# Altium integrated library Altium_WL-SMDC (rev20a).IntLib: 7 symbols
Pins are listed as number, name and electrical type; pins without a type are passive.

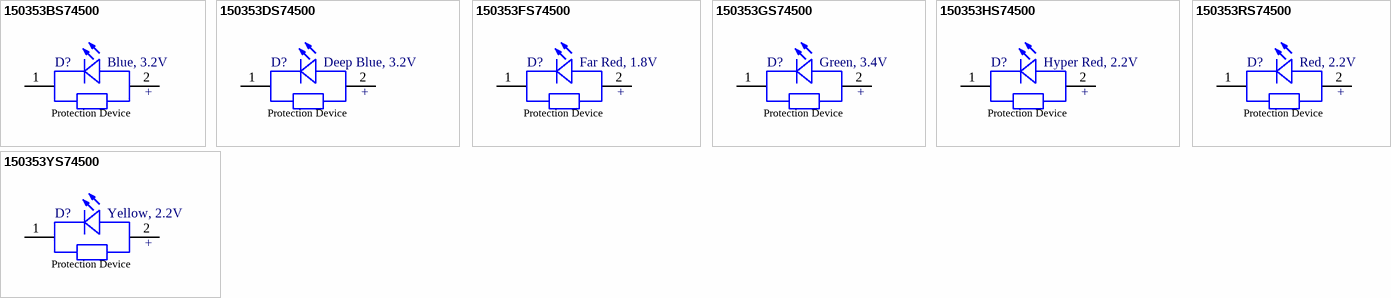
[diagram p0: symbols 150353BS74500 to 150353YS74500]

## 150353BS74500
designator D?, comment Blue, 3.2V
WL-SMDC SMT Mono-color Ceramic LED Waterclear, size 3535, 3.2V, Blue; Manufacturer Part Number: 150353BS74500; Manufacturer: Wurth Elektronik; Peak Wavelength: 455nm; Viewing Angle: 125deg; Chip Technology: InGaN; ComponentLink1Description: Manufacturer; ComponentLink1URL: http://www.we-online.de; ComponentLink2Description: Datasheet; ComponentLink2URL: https://katalog.we-online.de/led/datasheet/150353BS74500.pdf; Operating Temperature: -40 to +125degC; Emitting Color: Blue; Forward Voltage: 3.2V; Packaging: Tape and Reel; Mounting Technology: SMT; Published Date: October 2019; Size: 3535
footprint WL-SMDC_3535
pins: 1 K, 2 A
text: +; Protection Device

## 150353DS74500
designator D?, comment Deep Blue, 3.2V
WL-SMDC Horticulture SMT Monocolor Ceramic LED Waterclear, size 3535, 3.2V, Deep Blue; Manufacturer Part Number: 150353DS74500; Manufacturer: Wurth Elektronik; Peak Wavelength: 450nm; Viewing Angle: 125deg; Chip Technology: InGaN; ComponentLink1Description: Manufacturer; ComponentLink1URL: http://www.we-online.de; ComponentLink2Description: Datasheet; ComponentLink2URL: https://katalog.we-online.de/led/datasheet/150353DS74500.pdf; Operating Temperature: -40 to +100degC; Emitting Color: Deep Blue; Forward Voltage: 3.2V; Packaging: Tape and Reel; Mounting Technology: SMT; Published Date: October 2019; Size: 3535
footprint WL-SMDC_3535
pins: 1 K, 2 A
text: +; Protection Device

## 150353FS74500
designator D?, comment Far Red, 1.8V
WL-SMDC Horticulture SMT Monocolor Ceramic LED Waterclear, size 3535, 1.8V, Far Red; Manufacturer Part Number: 150353FS74500; Manufacturer: Wurth Elektronik; Emitting Color: Far Red; Peak Wavelength: 730nm; Viewing Angle: 125deg; Chip Technology: AlInGaP; ComponentLink1Description: Manufacturer; ComponentLink1URL: http://www.we-online.de; ComponentLink2Description: Datasheet; ComponentLink2URL: https://katalog.we-online.de/led/datasheet/150353FS74500.pdf; Operating Temperature: -40 to +100degC; Forward Voltage: 1.8V; Packaging: Tape and Reel; Mounting Technology: SMT; Published Date: October 2019; Size: 3535
footprint WL-SMDC_3535
pins: 1 K, 2 A
text: +; Protection Device

## 150353GS74500
designator D?, comment Green, 3.4V
WL-SMDC SMT Mono-color Ceramic LED Waterclear, size 3535, 3.4V, Green; Manufacturer Part Number: 150353GS74500; Manufacturer: Wurth Elektronik; Peak Wavelength: 520nm; Viewing Angle: 125deg; Chip Technology: InGaN; ComponentLink1Description: Manufacturer; ComponentLink1URL: http://www.we-online.de; ComponentLink2Description: Datasheet; ComponentLink2URL: https://katalog.we-online.de/led/datasheet/150353GS74500.pdf; Operating Temperature: -40 to +125degC; Emitting Color: Green; Forward Voltage: 3.4V; Packaging: Tape and Reel; Mounting Technology: SMT; Published Date: October 2019; Size: 3535
footprint WL-SMDC_3535
pins: 1 K, 2 A
text: +; Protection Device

## 150353HS74500
designator D?, comment Hyper Red, 2.2V
WL-SMDC Horticulture SMT Monocolor Ceramic LED Waterclear, size 3535, 2.2V, Hyper Red; Manufacturer Part Number: 150353HS74500; Manufacturer: Wurth Elektronik; Peak Wavelength: 660nm; Viewing Angle: 125deg; Chip Technology: AlInGaP; ComponentLink1Description: Manufacturer; ComponentLink1URL: http://www.we-online.de; ComponentLink2Description: Datasheet; ComponentLink2URL: https://katalog.we-online.de/led/datasheet/150353HS74500.pdf; Operating Temperature: -40 to +100degC; Emitting Color: Hyper Red; Forward Voltage: 2.2V; Packaging: Tape and Reel; Mounting Technology: SMT; Published Date: August 2020; Size: 3535
footprint WL-SMDC_3535
pins: 1 K, 2 A
text: +; Protection Device

## 150353RS74500
designator D?, comment Red, 2.2V
WL-SMDC SMT Mono-color Ceramic LED Waterclear, size 3535, 2.2V, Red; Manufacturer Part Number: 150353RS74500; Manufacturer: Wurth Elektronik; Peak Wavelength: 635nm; Viewing Angle: 125deg; Chip Technology: AlInGaP; ComponentLink1Description: Manufacturer; ComponentLink1URL: http://www.we-online.de; ComponentLink2Description: Datasheet; ComponentLink2URL: https://katalog.we-online.de/led/datasheet/150353RS74500.pdf; Operating Temperature: -40 to +125degC; Emitting Color: Red; Forward Voltage: 2.2V; Packaging: Tape and Reel; Mounting Technology: SMT; Published Date: October 2019; Size: 3535
footprint WL-SMDC_3535
pins: 1 K, 2 A
text: +; Protection Device

## 150353YS74500
designator D?, comment Yellow, 2.2V
WL-SMDC SMT Mono-color Ceramic LED Waterclear, size 3535, 2.2V, Yellow; Manufacturer Part Number: 150353YS74500; Manufacturer: Wurth Elektronik; Peak Wavelength: 593nm; Viewing Angle: 125deg; Chip Technology: AlInGaP; ComponentLink1Description: Manufacturer; ComponentLink1URL: http://www.we-online.de; ComponentLink2Description: Datasheet; ComponentLink2URL: https://katalog.we-online.de/led/datasheet/150353YS74500.pdf; Operating Temperature: -40 to +125degC; Emitting Color: Yellow; Forward Voltage: 2.2V; Packaging: Tape and Reel; Mounting Technology: SMT; Published Date: October 2019; Size: 3535
footprint WL-SMDC_3535
pins: 1 K, 2 A
text: +; Protection Device